# Altium footprint library PWM_Controller_Half_Bridge_ONLY_TL494.PcbLib: 1 footprints
Each footprint in its own frame and in the unit in brackets; x right, y up, seen from the top. Pads: shape width x height; smd on the part's side, far side on the other; paste and mask are expansions set on the pad; w line width, h text height; cw(c..) or ccw(c..) is an arc to the next point about the centre after c.
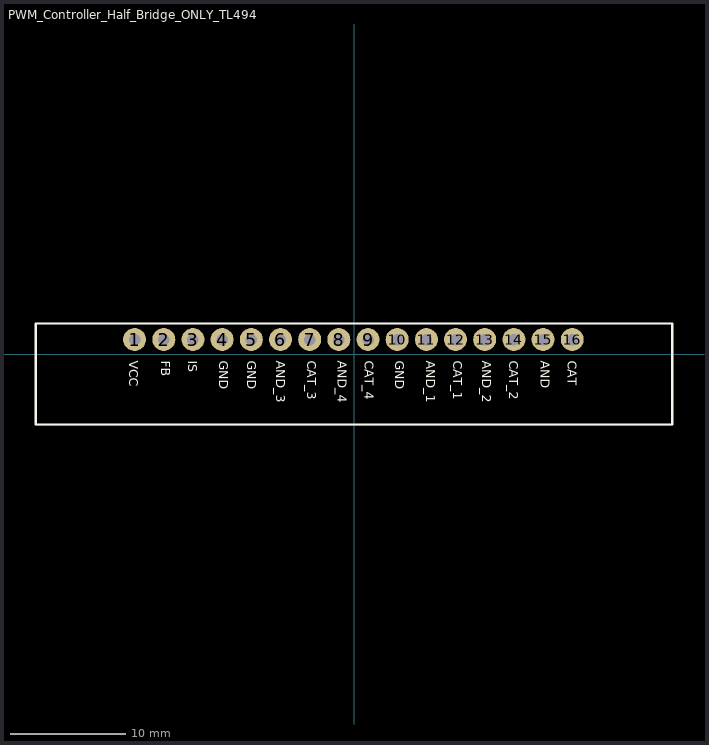
[diagram p0: the footprint, top view; thin cyan lines are the x and y axes]

## PWM_Controller_Half_Bridge_ONLY_TL494 [mm]
height 1.1
pads (16):
  round 2 hole 1: 1(-19.1,1.3) 2(-16.56,1.3) 3(-14.02,1.3) 4(-11.48,1.3) 5(-8.94,1.3) 6(-6.4,1.3) 7(-3.86,1.3) 8(-1.32,1.3) 9(1.22,1.3) 10(3.76,1.3) 11(6.3,1.3) 12(8.84,1.3) 13(11.38,1.3) 14(13.92,1.3) 15(16.46,1.3) 16(19,1.3)
Top Overlay:
  lines w0.2: -27.7,-6.1 27.7,-6.1 27.7,2.7 -27.7,2.7 -27.7,-6.1
  text "IS" at -14.412,-0.555 h0.8
  text "FB" at -16.762,-0.555 h0.8
  text "CAT_4" at 0.951,-0.555 h0.8
  text "AND_4" at -1.399,-0.555 h0.8
  text "CAT_1" at 8.628,-0.555 h0.8
  text "AND_1" at 6.278,-0.555 h0.8
  text "CAT_2" at 13.522,-0.555 h0.8
  text "AND_2" at 11.172,-0.555 h0.8
  text "AND_3" at -6.774,-0.555 h0.8
  text "CAT_3" at -4.084,-0.555 h0.8
  text "GND" at -11.746,-0.555 h0.8
  text "CAT" at 18.593,-0.555 h0.8
  text "AND" at 16.243,-0.555 h0.8
  text "VCC" at -19.557,-0.555 h0.8
  text "GND" at -9.307,-0.555 h0.8
  text "GND" at 3.593,-0.555 h0.8
Top Assembly:
  lines w0.1: -27.7,-6.1 27.7,-6.1 27.7,0 27.7,2.7 -27.7,2.7 -27.7,-6.1
  text "'.Designator'" at 0,0 h0.7
3D body "PWM_Controller_Half_Bridge_ONLY_TL494.step": height 33.13, standoff -0.32, extent -27.627,-6.041 27.627,2.58